# Altium schematic symbol library SCH - CRYSTALS - NDK CRYSTAL NX3225SA.SCHLIB: 1 symbol
Pins are listed as number, name and electrical type; pins without a type are passive.

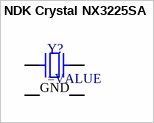
[diagram p0: symbol NDK Crystal NX3225SA]

## NDK Crystal NX3225SA
designator Y?
SMT Crystal
pins: 1, 2 GND, 3, 4 GND